# Altium integrated library capacitor-wima.IntLib: 44 symbols
Pins are listed as number, name and electrical type; pins without a type are passive.

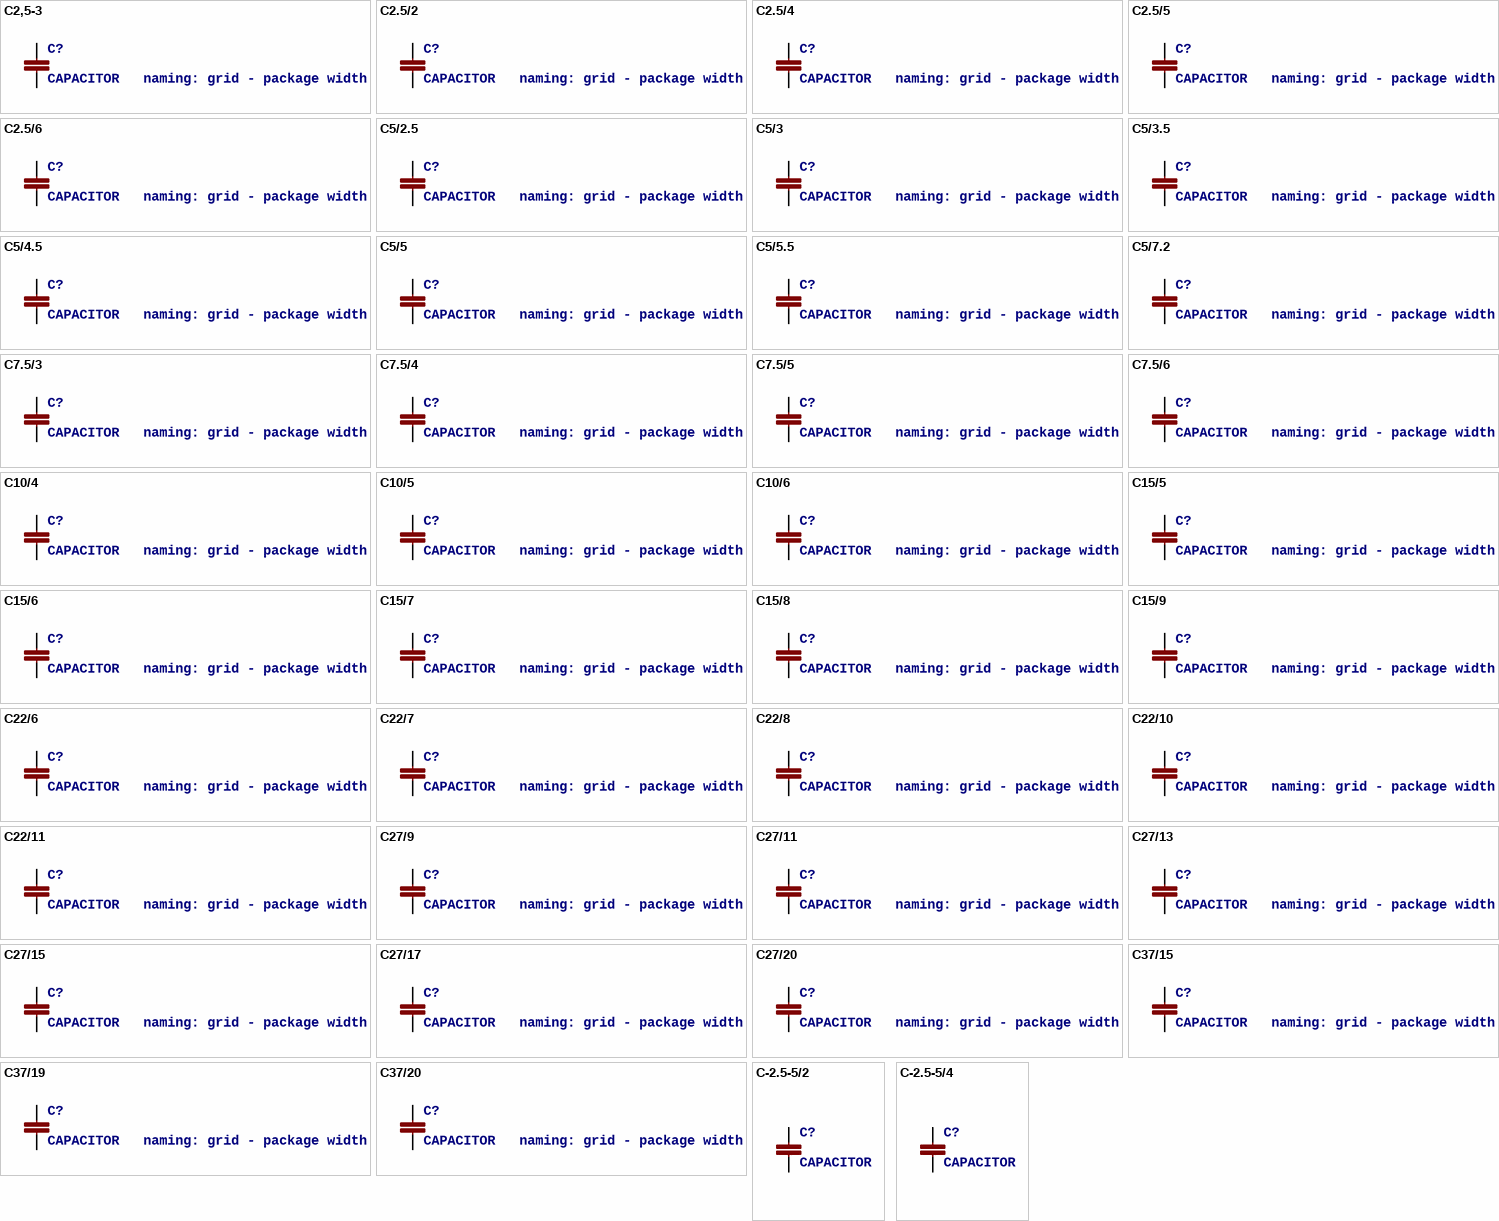
[diagram p0: symbols C2,5-3 to C-2.5-5/4]

## C2,5-3
designator C?, comment CAPACITOR   naming: grid - package width
footprint C2.5-3
pins: 1, 2

## C2.5/2
designator C?, comment CAPACITOR   naming: grid - package width
footprint C2.5-2
pins: 1, 2

## C2.5/4
designator C?, comment CAPACITOR   naming: grid - package width
footprint C2.5-4
pins: 1, 2

## C2.5/5
designator C?, comment CAPACITOR   naming: grid - package width
footprint C2.5-5
pins: 1, 2

## C2.5/6
designator C?, comment CAPACITOR   naming: grid - package width
footprint C2.5-6
pins: 1, 2

## C5/2.5
designator C?, comment CAPACITOR   naming: grid - package width
footprint C5B2.5
pins: 1, 2

## C5/3
designator C?, comment CAPACITOR   naming: grid - package width
footprint C5B3
pins: 1, 2

## C5/3.5
designator C?, comment CAPACITOR   naming: grid - package width
footprint C5B3.5
pins: 1, 2

## C5/4.5
designator C?, comment CAPACITOR   naming: grid - package width
footprint C5B4.5
pins: 1, 2

## C5/5
designator C?, comment CAPACITOR   naming: grid - package width
footprint C5B5
pins: 1, 2

## C5/5.5
designator C?, comment CAPACITOR   naming: grid - package width
footprint C5B5.5
pins: 1, 2

## C5/7.2
designator C?, comment CAPACITOR   naming: grid - package width
footprint C5B7.2
pins: 1, 2

## C7.5/3
designator C?, comment CAPACITOR   naming: grid - package width
footprint C7.5B3
pins: 1, 2

## C7.5/4
designator C?, comment CAPACITOR   naming: grid - package width
footprint C7.5B4
pins: 1, 2

## C7.5/5
designator C?, comment CAPACITOR   naming: grid - package width
footprint C7.5B5
pins: 1, 2

## C7.5/6
designator C?, comment CAPACITOR   naming: grid - package width
footprint C7.5B6
pins: 1, 2

## C10/4
designator C?, comment CAPACITOR   naming: grid - package width
footprint C10B4
pins: 1, 2

## C10/5
designator C?, comment CAPACITOR   naming: grid - package width
footprint C10B5
pins: 1, 2

## C10/6
designator C?, comment CAPACITOR   naming: grid - package width
footprint C10B6
pins: 1, 2

## C15/5
designator C?, comment CAPACITOR   naming: grid - package width
footprint C15B5
pins: 1, 2

## C15/6
designator C?, comment CAPACITOR   naming: grid - package width
footprint C15B6
pins: 1, 2

## C15/7
designator C?, comment CAPACITOR   naming: grid - package width
footprint C15B7
pins: 1, 2

## C15/8
designator C?, comment CAPACITOR   naming: grid - package width
footprint C15B8
pins: 1, 2

## C15/9
designator C?, comment CAPACITOR   naming: grid - package width
footprint C15B9
pins: 1, 2

## C22/6
designator C?, comment CAPACITOR   naming: grid - package width
footprint C22.5B6
pins: 1, 2

## C22/7
designator C?, comment CAPACITOR   naming: grid - package width
footprint C22.5B7
pins: 1, 2

## C22/8
designator C?, comment CAPACITOR   naming: grid - package width
footprint C22.5B8
pins: 1, 2

## C22/10
designator C?, comment CAPACITOR   naming: grid - package width
footprint C22.5B10
pins: 1, 2

## C22/11
designator C?, comment CAPACITOR   naming: grid - package width
footprint C22.5B11
pins: 1, 2

## C27/9
designator C?, comment CAPACITOR   naming: grid - package width
footprint C27.5B9
pins: 1, 2

## C27/11
designator C?, comment CAPACITOR   naming: grid - package width
footprint C27.5B11
pins: 1, 2

## C27/13
designator C?, comment CAPACITOR   naming: grid - package width
footprint C27.5B13
pins: 1, 2

## C27/15
designator C?, comment CAPACITOR   naming: grid - package width
footprint C27.5B15
pins: 1, 2

## C27/17
designator C?, comment CAPACITOR   naming: grid - package width
footprint C27.5B17
pins: 1, 2

## C27/20
designator C?, comment CAPACITOR   naming: grid - package width
footprint C27.5B20
pins: 1, 2

## C37/15
designator C?, comment CAPACITOR   naming: grid - package width
footprint C37.5B15
pins: 1, 2

## C37/19
designator C?, comment CAPACITOR   naming: grid - package width
footprint C37.5B19
pins: 1, 2

## C37/20
designator C?, comment CAPACITOR   naming: grid - package width
footprint C37.5B20
pins: 1, 2

## C-2.5-5/2
designator C?, comment CAPACITOR   for alternative placement   naming: default grid - extended grid/package width
footprint C2.5/5-2
pins: 1, 2, 3

## C-2.5-5/4
designator C?, comment CAPACITOR   for alternative placement   naming: default grid - extended grid/package width
footprint C2.5/5-4
pins: 1, 2, 3

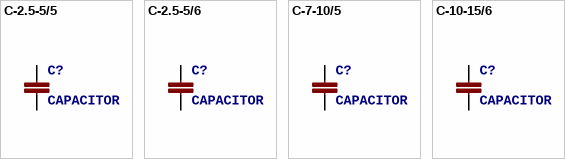
[diagram p1: symbols C-2.5-5/5 to C-10-15/6]

## C-2.5-5/5
designator C?, comment CAPACITOR   for alternative placement   naming: default grid - extended grid/package width
footprint C2.5/5-5
pins: 1, 2, 3

## C-2.5-5/6
designator C?, comment CAPACITOR   for alternative placement   naming: default grid - extended grid/package width
footprint C2.5/5-6
pins: 1, 2, 3

## C-7-10/5
designator C?, comment CAPACITOR   for alternative placement   naming: default grid - extended grid/package width
footprint C7-10B5
pins: 1, 2, 3

## C-10-15/6
designator C?, comment CAPACITOR   for alternative placement   naming: default grid - extended grid/package width
footprint C10-15B6
pins: 1, 2, 3